# EAGLE library part TEXAS_INSTRUMENTS-TIMER-NE555D (library Module_ICs)
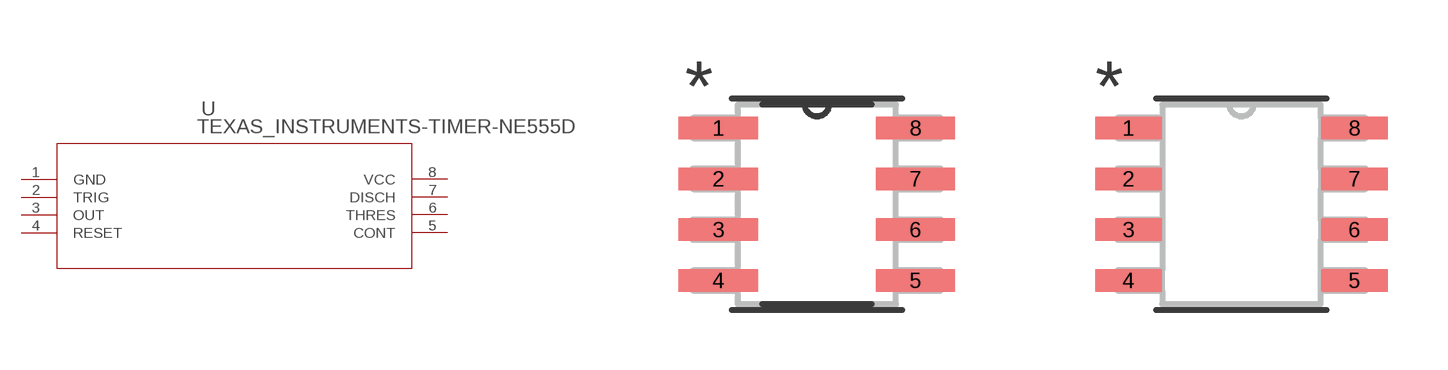
[diagram p65: symbol with the pads of D8; footprints D8, D8-M]

Designator prefix U

## TEXAS_INSTRUMENTS-TIMER-NE555D (DATASHEET_URL: http://www.ti.com/lit/gpn/NE555; DESCRIPTION: Single Precision Timer; FAMILY_NAME: TIMERS(CT); GENERIC_PART_NUMBER: NE555; INDUSTRY_STD_PKG_TYPE: SOIC; MANUFACTURER: Texas Instruments; PACKAGE_DESIGNATOR: D; PIN_COUNT: 8)  [D8]
1  GND  pwr
2  TRIG  in
3  OUT  out
4  RESET  in
5  CONT  pas
6  THRES  in
7  DISCH  pas
8  VCC  pwr

## TEXAS_INSTRUMENTS-TIMER-NE555DD8-M (DATASHEET_URL: http://www.ti.com/lit/gpn/NE555; DESCRIPTION: Single Precision Timer; FAMILY_NAME: TIMERS(CT); GENERIC_PART_NUMBER: NE555; INDUSTRY_STD_PKG_TYPE: SOIC; MANUFACTURER: Texas Instruments; PACKAGE_DESIGNATOR: D; PIN_COUNT: 8)  [D8-M]
Pads as for D8

## TEXAS_INSTRUMENTS-TIMER-NE555DD8-L (DATASHEET_URL: http://www.ti.com/lit/gpn/NE555; DESCRIPTION: Single Precision Timer; FAMILY_NAME: TIMERS(CT); GENERIC_PART_NUMBER: NE555; INDUSTRY_STD_PKG_TYPE: SOIC; MANUFACTURER: Texas Instruments; PACKAGE_DESIGNATOR: D; PIN_COUNT: 8)  [D8-L]
Pads as for D8

## Footprint D8 (pad centres in mm)
smd 1.981 x 0.559: 1 -2.464,1.905; 2 -2.464,0.635; 3 -2.464,-0.635; 4 -2.464,-1.905; 5 2.464,-1.905; 6 2.464,-0.635; 7 2.464,0.635; 8 2.464,1.905

## Footprint D8-M (pad centres in mm)
smd 1.664 x 0.559: 1 -2.826,1.905; 2 -2.826,0.635; 3 -2.826,-0.635; 4 -2.826,-1.905; 5 2.826,-1.905; 6 2.826,-0.635; 7 2.826,0.635; 8 2.826,1.905

## Footprint D8-L (pad centres in mm)
smd 1.257 x 0.508: 1 -2.623,1.905; 2 -2.623,0.635; 3 -2.623,-0.635; 4 -2.623,-1.905; 5 2.623,-1.905; 6 2.623,-0.635; 7 2.623,0.635; 8 2.623,1.905